# Altium footprint library PcbLib1.PcbLib: 1 footprints
Each footprint in its own frame and in the unit in brackets; x right, y up, seen from the top. Pads: shape width x height; smd on the part's side, far side on the other; paste and mask are expansions set on the pad; w line width, h text height; cw(c..) or ccw(c..) is an arc to the next point about the centre after c.
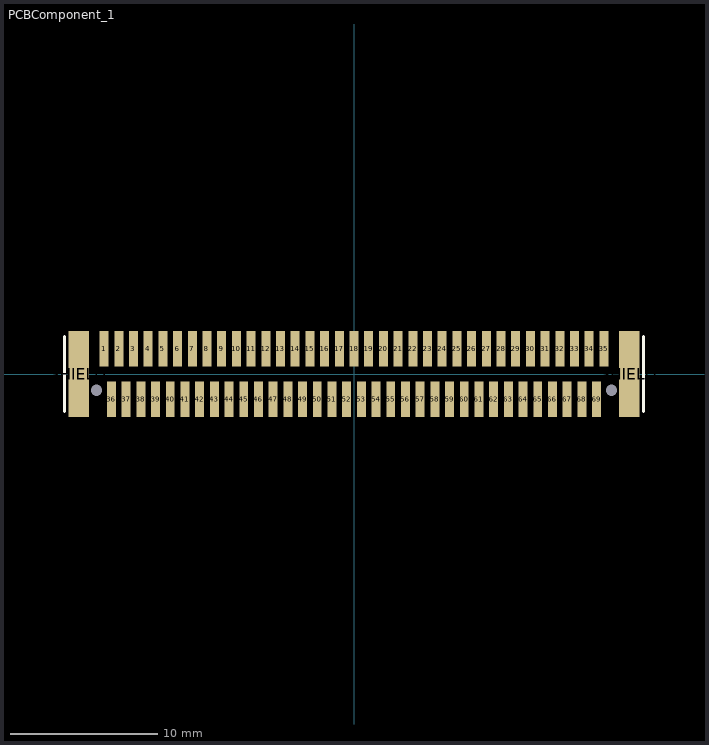
[diagram p0: the footprint, top view; thin cyan lines are the x and y axes]

## PCBComponent_1 [mm]
pads (73):
  rect 0.61x2.41 smd: 1(-17,1.72) 2(-16,1.72) 3(-15,1.72) 4(-14,1.72) 5(-13,1.72) 6(-12,1.72) 7(-11,1.72) 8(-10,1.72) 9(-9,1.72) 10(-8,1.72) 11(-7,1.72) 12(-6,1.72) 13(-5,1.72) 14(-4,1.72) 15(-3,1.72) 16(-2,1.72) 17(-1,1.72) 18(0,1.72) 19(1,1.72) 20(2,1.72) 21(3,1.72) 22(4,1.72) 23(5,1.72) 24(6,1.72) 25(7,1.72) 26(8,1.72) 27(9,1.72) 28(10,1.72) 29(11,1.72) 30(12,1.72) 31(13,1.72) 32(14,1.72) 33(15,1.72) 34(16,1.72) 35(17,1.72) 36(-16.5,-1.72) 37(-15.5,-1.72) 38(-14.5,-1.72) 39(-13.5,-1.72) 40(-12.5,-1.72) 41(-11.5,-1.72) 42(-10.5,-1.72) 43(-9.5,-1.72) 44(-8.5,-1.72) 45(-7.5,-1.72) 46(-6.5,-1.72) 47(-5.5,-1.72) 48(-4.5,-1.72) 49(-3.5,-1.72) 50(-2.5,-1.72) 51(-1.5,-1.72) 52(-0.5,-1.72) 53(0.5,-1.72) 54(1.5,-1.72) 55(2.5,-1.72) 56(3.5,-1.72) 57(4.5,-1.72) 58(5.5,-1.72) 59(6.5,-1.72) 60(7.5,-1.72) 61(8.5,-1.72) 62(9.5,-1.72) 63(10.5,-1.72) 64(11.5,-1.72) 65(12.5,-1.72) 66(13.5,-1.72) 67(14.5,-1.72) 68(15.5,-1.72) 69(16.5,-1.72)
  rect 1.4x5.85 smd: SHIELD(-18.72,0) SHIELD(18.72,0)
  round 0.5 hole 0.76 unplated: ""(-17.526,-1.1) ""(17.526,-1.1)
Top Overlay:
  lines w0.2: -19.685,-2.54 -19.685,2.54 ; 19.685,-2.54 19.685,2.54